# Altium schematic symbol library INDUCTOR_SMD.SchLib: 1 symbol
Pins are listed as number, name and electrical type; pins without a type are passive.

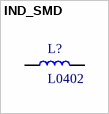
[diagram p0: symbol IND_SMD]

## IND_SMD
designator L?, comment L0402
Inductor SMD; Inductance: NM; Current: NM; Supplier: NM; Supplier Part Number: NM; Supplier URL: NM
footprint IND_0402
footprint IND_0603
footprint IND_BOURNS_SRN8040
footprint IND_XAL6060-472MEB
pins: 1, 2